# EAGLE library part NOKIA5110 (library SmallRoomLabs)
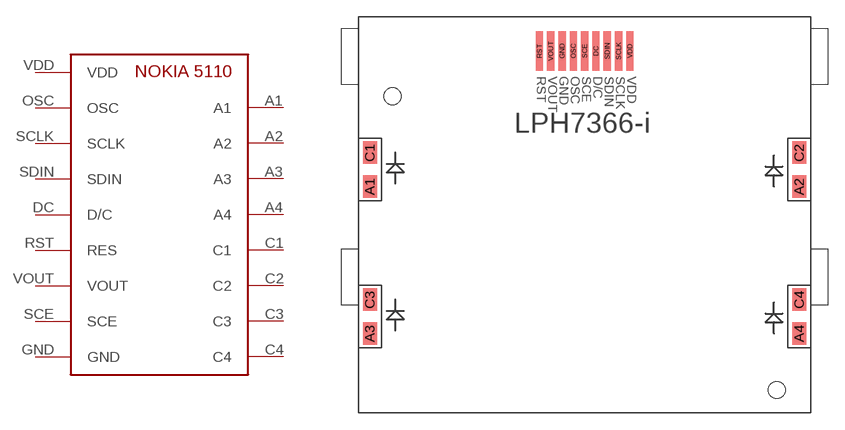
[diagram p9: symbol with the pads of NOKIA5110-A; footprint NOKIA5110-A]

Designator prefix -

## NOKIA5110  [NOKIA5110-A]
A1  A1
A2  A2
A3  A3
A4  A4
C1  C1
C2  C2
C3  C3
C4  C4
DC  D/C
GND  GND
OSC  OSC
RST  RES
SCE  SCE
SCLK  SCLK
SDIN  SDIN
VDD  VDD
VOUT  VOUT

## Footprint NOKIA5110-A (pad centres in mm)
smd 1.25 x 2: A1 -19,-14; A2 19,-14; A3 -19,-27; A4 19,-27; C1 -19,-11; C2 19,-11; C3 -19,-24; C4 19,-24
smd 0.65 x 3.5: DC 1,-2; GND -2,-2; OSC -1,-2; RST -4,-2; SCE 0,-2; SCLK 3,-2; SDIN 2,-2; VDD 4,-2; VOUT -3,-2
hole 1.5 at 17,-32
hole 1.5 at -17,-6